# Altium schematic symbol library Debug.SchLib: 8 symbols
Pins are listed as number, name and electrical type; pins without a type are passive.

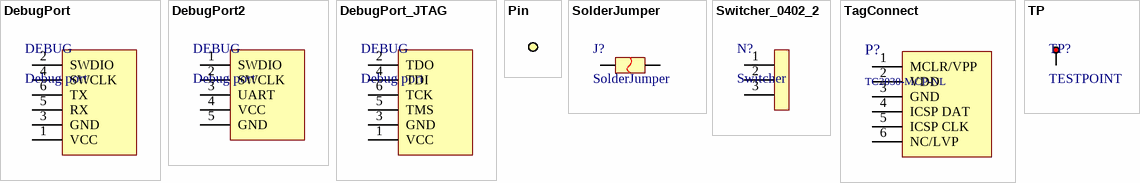
[diagram p0: symbols DebugPort to TP]

## DebugPort
designator DEBUG, comment Debug port  (no BOM)
Debug port with SWD and UART
footprint DebugPort (Debug port with SWD and UART)
footprint DebugPort_DEUS (Debug port with SWD and UART)
footprint DEBUG_SWD_UART
footprint DEBUG_CONN (Debug port with SWD and UART)
pins: 1 VCC, 2 SWDIO, 3 GND, 4 SWCLK, 5 RX, 6 TX

## DebugPort2
designator DEBUG, comment Debug port  (no BOM)
Debug port with SWD and UART
footprint DebugPort4 (Debug port with SWD and UART)
footprint DebugPort5 (Debug port with SWD and UART)
pins: 1 SWDIO, 2 SWCLK, 3 UART, 4 VCC, 5 GND

## DebugPort_JTAG
designator DEBUG, comment Debug port  (no BOM)
Debug port with SWD and UART
footprint DebugPort (Debug port with SWD and UART)
footprint DebugPort_DEUS (Debug port with SWD and UART)
footprint DEBUG_SWD_UART
pins: 1 VCC, 2 TDO, 3 GND, 4 TDI, 5 TMS, 6 TCK

## Pin
designator TP?  (value not drawn)  (no BOM)
footprint TP_CIRCLE1mm
footprint TP_CIRCLE1.5mm
footprint TP_CIRCLE2mm
footprint TP_HEX1mm
footprint TP_SQUARE1mm
pins: 1 RESV

## SolderJumper
designator J?  (no BOM)
footprint SOLDER_JUMPER
pins: 1, 2

## Switcher_0402_2
designator N?, comment Switcher
footprint 0402_switcher (Chip Resistor, EIA 0402, Metric 1005, Body 1.0x0.5mm, IPC Medium Density)
pins: 1, 2, 3

## TagConnect
designator P?, comment TC2030-MCP-NL  (no BOM)
TagConnect connector; HelpURL: http://www.tag-connect.com/Materials/TC2030-MCP-NL%20PCB%20Footprint.pdf
footprint TC2030-MCP-NL (TagConnect)
pins: 1 MCLR/VPP, 2 VDD, 3 GND, 4 ICSP DAT, 5 ICSP CLK, 6 NC/LVP

## TP
designator TP?, comment TESTPOINT  (no BOM)
Rule: UNIONINDEX{}0[]RULEKIND{}PolygonConnect[]NETSCOPE{}AnyNet[]LAYERKIND{}SameLayer[]NAME{}Schematic Polygon Connect Style[]CONNECTSTYLE{}Direct[]RELIEFCONDUCTORWIDTH{}10mil[]RELIEFENTRIES{}4[]POLYGONRELIEFANGLE{}45 Angle[]AIRGAPWIDTH{}10mil[]UNIT{}Imperial[]PcbType{}ProtelPcb
footprint TP_CIRCLE
footprint TP_SQUARE
pins: 1 RESV